# EAGLE library part 690367280876 (library Board-to-Board (rev18a))
WR-MM Female SMT Connector with Polarization, 8 Pins=>Code : Con_BTB_MM_Female_SMT_690367280876 <http://katalog.we-online.de/media/thumbs2/eican/thb_Con_BTB_MM_Female_SMT_69036728xx76_pf2.jpg> Details see: http://katalog.we-online.de/en/em/6903_6728_xx_76 Created 2014-06-04, Karrer Zheng 2014 (C) Würth Elektronik
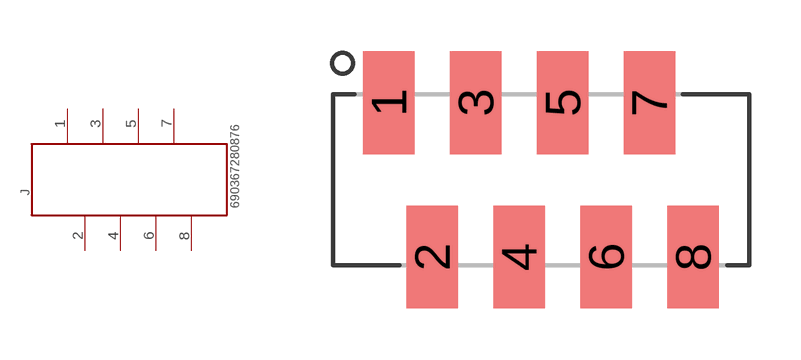
[diagram p350: symbol with the pads of 690367280876; footprint 690367280876]

Designator prefix J

## 690367280876  [690367280876]
1  8  pas
2  7  pas
3  6  pas
4  5  pas
5  4  pas
6  3  pas
7  2  pas
8  1  pas

## Footprint 690367280876 (pad centres in mm)
WR-MM Female SMT Connector with Polarization, 8 pins
smd 1.5 x 3: 1 -4.445,2.25; 2 -3.175,-2.25; 3 -1.905,2.25; 4 -0.635,-2.25; 5 0.635,2.25; 6 1.905,-2.25; 7 3.175,2.25; 8 4.445,-2.25